# Altium footprint library MiCore.PcbLib: 29 footprints (part 1 of 2)
Each footprint in its own frame and in the unit in brackets; x right, y up, seen from the top. Pads: shape width x height; smd on the part's side, far side on the other; paste and mask are expansions set on the pad; w line width, h text height; cw(c..) or ccw(c..) is an arc to the next point about the centre after c.
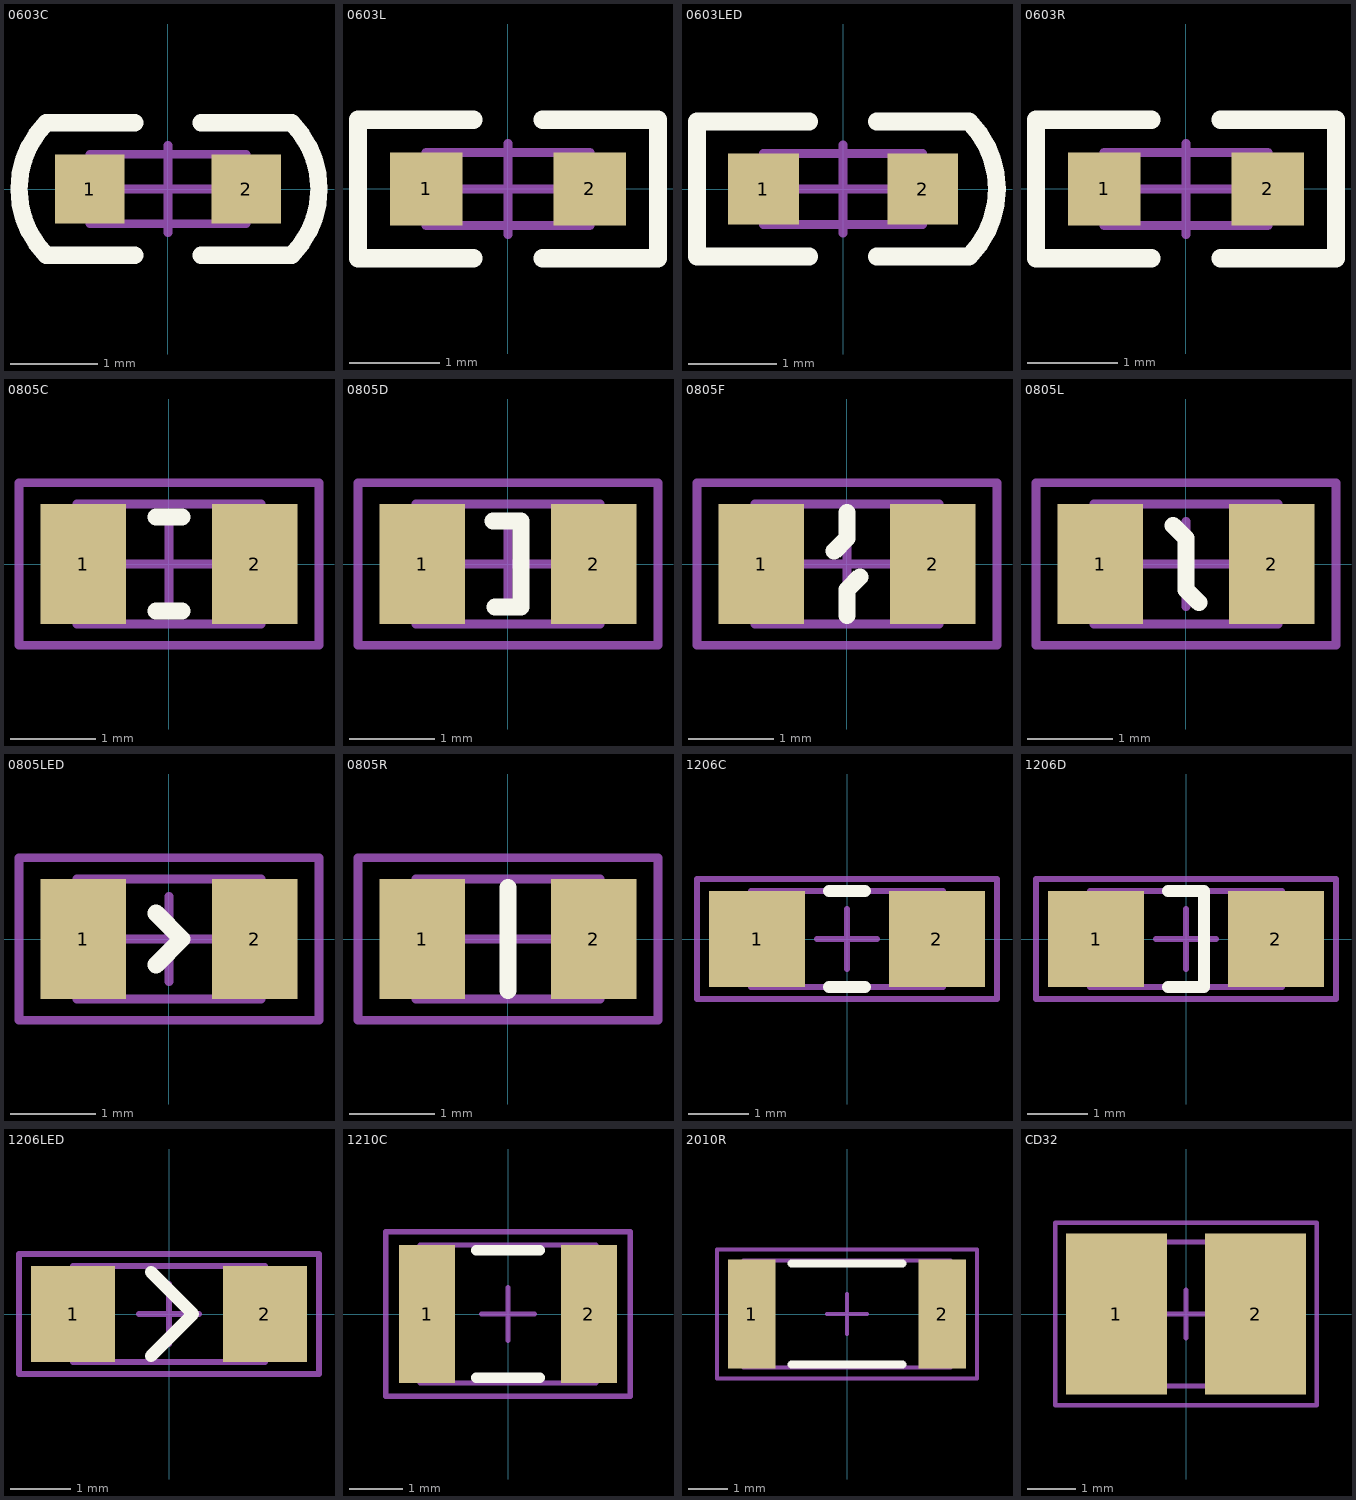
[diagram p0: the footprints below, top view; thin cyan lines are the x and y axes]

## 0603C [mm] "贴片电容"
pads (2):
  rect 0.8x0.8 smd: 1(-0.9,0) 2(0.9,0)
Top Overlay:
  lines w0.2: -0.381,-0.762 -1.4,-0.762 cw(c-0.638,0) -1.4,0.762 -0.381,0.762 ; 0.381,-0.762 1.424,-0.762 ccw(c0.662,0) 1.424,0.762 0.381,0.762
Mechanical 13:
  lines w0.1: -0.9,-0.4 -0.9,0.4 0.9,0.4 0.9,-0.4 -0.9,-0.4
Mechanical 15:
  lines w0.1: -0.5,0 0.5,0 ; 0,-0.5 0,0.5
3D body: height 0.8, standoff 0, extent -0.9,-0.4 0.9,0.4

## 0603L [mm] "贴片电感"
pads (2):
  rect 0.8x0.8 smd: 1(-0.9,0) 2(0.9,0)
Top Overlay:
  lines w0.2: -0.381,-0.762 -1.651,-0.762 -1.651,0.762 -0.381,0.762 ; 0.381,-0.762 1.651,-0.762 1.651,0.762 0.381,0.762
Mechanical 13:
  lines w0.1: -0.9,-0.4 0.9,-0.4 0.9,0.4 -0.9,0.4 -0.9,-0.4
Mechanical 15:
  lines w0.1: -0.5,0 0.5,0 ; 0,-0.5 0,0.5
3D body: height 0.8, standoff 0, extent -0.9,-0.4 0.9,0.4

## 0603LED [mm] "贴片LED"
pads (2):
  rect 0.8x0.8 smd: 1(-0.9,0) 2(0.9,0)
Top Overlay:
  lines w0.2: -0.381,-0.762 -1.651,-0.762 -1.651,0.762 -0.381,0.762 ; 0.381,-0.762 1.424,-0.762 ccw(c0.662,0) 1.424,0.762 0.381,0.762
Mechanical 13:
  lines w0.1: -0.9,-0.4 -0.9,0.4 0.9,0.4 0.9,-0.4 -0.9,-0.4
Mechanical 15:
  lines w0.1: -0.5,0 0.5,0 ; 0,-0.5 0,0.5
3D body: height 0.5, standoff 0, extent -0.9,-0.4 0.9,0.4

## 0603R [mm] "贴片电阻"
pads (2):
  rect 0.8x0.8 smd: 1(-0.9,0) 2(0.9,0)
Top Overlay:
  lines w0.2: -0.381,-0.762 -1.651,-0.762 -1.651,0.762 -0.381,0.762 ; 0.381,-0.762 1.651,-0.762 1.651,0.762 0.381,0.762
Mechanical 13:
  lines w0.1: -0.9,-0.4 0.9,-0.4 0.9,0.4 -0.9,0.4 -0.9,-0.4
Mechanical 15:
  lines w0.1: -0.5,0 0.5,0 ; 0,-0.5 0,0.5
3D body: height 0.4, standoff 0, extent -0.9,-0.4 0.9,0.4
3D body: height 0.45, standoff 0.4, extent -0.65,-0.35 0.65,0.35

## 0805C [mm] "贴片电容"
pads (2):
  rect 1x1.4 smd: 1(-1,0) 2(1,0)
Top Overlay:
  lines w0.2: -0.15,-0.55 0.15,-0.55 ; -0.15,0.55 0.15,0.55
Mechanical 13:
  lines w0.1: -1.075,-0.7 1.075,-0.7 1.075,0.7 -1.075,0.7 -1.075,-0.7
Mechanical 15:
  lines w0.1: -0.5,0 0.5,0 ; 0,-0.5 0,0.5 ; -1.75,-0.95 1.75,-0.95 1.75,0.95 -1.75,0.95 -1.75,-0.95
3D body: height 0.8, standoff 0, extent -1.075,-0.7 1.075,0.7

## 0805D [mm] "贴片二极管(SOD-323)"
pads (2):
  rect 1x1.4 smd: 1(-1,0) 2(1,0)
Top Overlay:
  lines w0.2: -0.175,0.5 0.15,0.5 0.15,-0.5 -0.15,-0.5
Mechanical 13:
  lines w0.1: -1.075,-0.7 -1.075,0.7 1.075,0.7 1.075,-0.7 -1.075,-0.7
Mechanical 15:
  lines w0.1: -0.5,0 0.5,0 ; 0,-0.5 0,0.5 ; -1.75,-0.95 -1.75,0.95 1.75,0.95 1.75,-0.95 -1.75,-0.95
3D body: height 1, standoff 0, extent -1.075,-0.7 1.075,0.7

## 0805F [mm] "贴片自恢复保险丝"
pads (2):
  rect 1x1.4 smd: 1(-1,0) 2(1,0)
Top Overlay:
  lines w0.2: -0.15,0.15 0,0.3 0,0.6 ; 0,-0.6 0,-0.3 0.15,-0.15
Mechanical 13:
  lines w0.1: -1.075,-0.7 -1.075,0.7 1.075,0.7 1.075,-0.7 -1.075,-0.7
Mechanical 15:
  lines w0.1: -0.5,0 0.5,0 ; 0,-0.5 0,0.5 ; -1.75,-0.95 -1.75,0.95 1.75,0.95 1.75,-0.95 -1.75,-0.95
3D body: height 0.5, standoff 0, extent -1.075,-0.7 1.075,0.7

## 0805L [mm] "贴片电感"
pads (2):
  rect 1x1.4 smd: 1(-1,0) 2(1,0)
Top Overlay:
  lines w0.2: -0.15,0.45 0,0.3 0,-0.3 0.15,-0.45
Mechanical 13:
  lines w0.1: -1.075,-0.7 1.075,-0.7 1.075,0.7 -1.075,0.7 -1.075,-0.7
Mechanical 15:
  lines w0.1: -0.5,0 0.5,0 ; 0,-0.5 0,0.5 ; -1.75,-0.95 1.75,-0.95 1.75,0.95 -1.75,0.95 -1.75,-0.95
3D body: height 1, standoff 0, extent -1.075,-0.7 1.075,0.7

## 0805LED [mm] "贴片LED"
pads (2):
  rect 1x1.4 smd: 1(-1,0) 2(1,0)
Top Overlay:
  lines w0.2: -0.15,-0.3 0.15,0 -0.15,0.3
Mechanical 13:
  lines w0.1: -1.075,-0.7 -1.075,0.7 1.075,0.7 1.075,-0.7 -1.075,-0.7
Mechanical 15:
  lines w0.1: -0.5,0 0.5,0 ; 0,-0.5 0,0.5 ; -1.75,-0.95 -1.75,0.95 1.75,0.95 1.75,-0.95 -1.75,-0.95
3D body: height 1, standoff 0, extent -1.075,-0.7 1.075,0.7

## 0805R [mm] "贴片电阻"
pads (2):
  rect 1x1.4 smd: 1(-1,0) 2(1,0)
Top Overlay:
  lines w0.2: 0,-0.6 0,0.6
Mechanical 13:
  lines w0.1: -1.075,-0.7 -1.075,0.7 1.075,0.7 1.075,-0.7 -1.075,-0.7
Mechanical 15:
  lines w0.1: -0.5,0 0.5,0 ; 0,-0.5 0,0.5 ; -1.75,-0.95 -1.75,0.95 1.75,0.95 1.75,-0.95 -1.75,-0.95
3D body: height 0.5, standoff 0, extent -1.075,-0.7 1.075,0.7
3D body: height 0.55, standoff 0.5, extent -0.75,-0.625 0.75,0.625

## 1206C [mm] "Chip Capacitor; Body 3.2 x 1.6 mm (LxW typ)"
height 1.35
pads (2):
  rect 1.6x1.6 smd: 1(-1.5,0) 2(1.5,0)
Top Overlay:
  lines w0.2: -0.3,-0.8 0.3,-0.8 ; -0.3,0.8 0.3,0.8
Mechanical 13:
  lines w0.1: -1.6,-0.8 -1.6,0.8 1.6,0.8 1.6,-0.8 -1.6,-0.8
Mechanical 15:
  lines w0.1: -0.5,0 0.5,0 ; 0,-0.5 0,0.5 ; -2.5,-1 -2.5,1 2.5,1 2.5,-1 -2.5,-1
3D body: height 0.8, standoff 0, extent -1.6,-0.8 1.6,0.8

## 1206D [mm] "贴片二极管(SOD-123)"
height 1.35
pads (2):
  rect 1.6x1.6 smd: 1(-1.5,0) 2(1.5,0)
Top Overlay:
  lines w0.2: -0.3,-0.8 0.3,-0.8 0.3,0.8 -0.3,0.8
Mechanical 13:
  lines w0.1: -1.6,-0.8 -1.6,0.8 1.6,0.8 1.6,-0.8 -1.6,-0.8
Mechanical 15:
  lines w0.1: -0.5,0 0.5,0 ; 0,-0.5 0,0.5 ; -2.5,-1 -2.5,1 2.5,1 2.5,-1 -2.5,-1
3D body: height 1.2, standoff 0, extent -1.6,-0.8 1.6,0.8

## 1206LED [mm] "贴片LED"
pads (2):
  rect 1.4x1.6 smd: 1(-1.6,0) 2(1.6,0)
Top Overlay:
  lines w0.2: -0.3,-0.7 0.4,0 -0.3,0.7
Mechanical 13:
  lines w0.1: -1.6,-0.8 1.6,-0.8 1.6,0.8 -1.6,0.8 -1.6,-0.8
Mechanical 15:
  lines w0.1: -0.5,0 0.5,0 ; 0,-0.5 0,0.5 ; -2.5,-1 2.5,-1 2.5,1 -2.5,1 -2.5,-1
3D body: height 0.6, standoff 0, extent -1.6,-0.8 1.6,0.8

## 1210C [mm] "Chip Capacitor, 2-Leads, Body 3.2x2.5mm, IPC Medium Density"
height 2.5
pads (2):
  rect 1.05x2.6 smd: 1(-1.525,0) 2(1.525,0)
Top Overlay:
  lines w0.2: -0.6,-1.2 0.6,-1.2 ; -0.6,1.2 0.6,1.2
Mechanical 13:
  lines w0.1: -1.65,-1.3 -1.65,1.3 1.65,1.3 1.65,-1.3 -1.65,-1.3
Mechanical 15:
  lines w0.1: -0.5,0 0.5,0 ; 0,-0.5 0,0.5 ; -2.3,-1.55 -2.3,1.55 2.3,1.55 2.3,-1.55 -2.3,-1.55
3D body: height 2.5, standoff 0, extent -1.65,-1.3 1.65,1.3

## 2010R [mm] "Chip Resistor, 2-Leads, Body 5.0x2.5mm, IPC Medium Density"
height 0.6
pads (2):
  rect 1.2x2.75 smd: 1(-2.4,0) 2(2.4,0)
Top Overlay:
  lines w0.2: -1.4,-1.275 1.4,-1.275 ; -1.4,1.275 1.4,1.275
Mechanical 13:
  lines w0.1: -2.6,-1.35 -2.6,1.35 2.6,1.35 2.6,-1.35 -2.6,-1.35
Mechanical 15:
  lines w0.1: -0.5,0 0.5,0 ; 0,-0.5 0,0.5 ; -3.275,-1.625 -3.275,1.625 3.275,1.625 3.275,-1.625 -3.275,-1.625
3D body: height 0.6, standoff 0, extent -2.6,-1.35 2.6,1.35
3D body: height 0.65, standoff 0.6, extent -1.8,-1.2 1.8,1.2

## CD32 [mm] "Precision Wire Wound Inductor, 2-Leads, Body 3.5x3.0mm, IPC Medium Density"
height 2.4
pads (2):
  rect 2.1x3.35 smd: 1(-1.45,0) 2(1.45,0)
Mechanical 13:
  lines w0.1: -1.75,-1.5 1.75,-1.5 1.75,1.5 -1.75,1.5 -1.75,-1.5
Mechanical 15:
  lines w0.1: -0.5,0 0.5,0 ; 0,-0.5 0,0.5 ; -2.725,-1.9 2.725,-1.9 2.725,1.9 -2.725,1.9 -2.725,-1.9
3D body: height 2.4, standoff 0, extent -1.75,-1.5 1.75,1.5